# Altium footprint library SMD-POL-PANASONIC-C.PcbLib: 1 footprints
Each footprint in its own frame and in the unit in brackets; x right, y up, seen from the top. Pads: shape width x height; smd on the part's side, far side on the other; paste and mask are expansions set on the pad; w line width, h text height; cw(c..) or ccw(c..) is an arc to the next point about the centre after c.
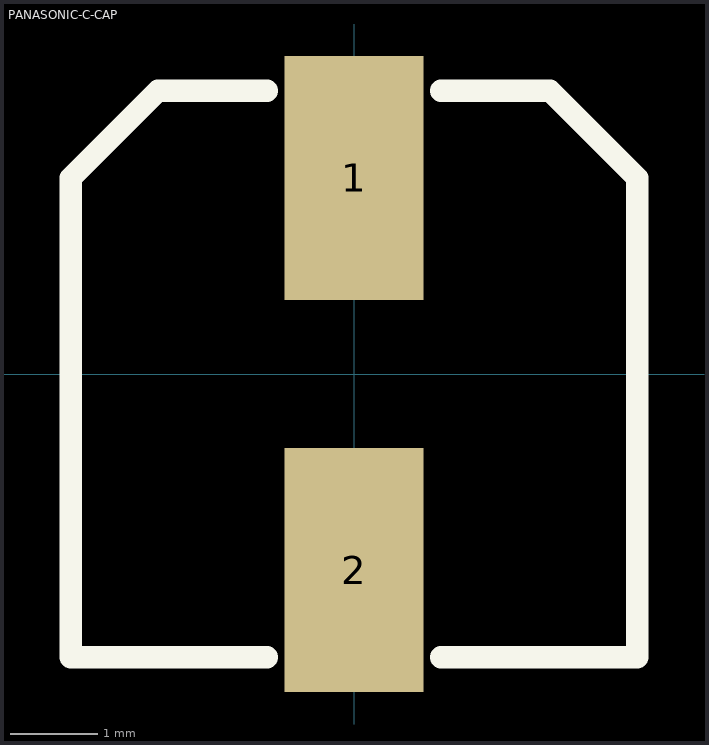
[diagram p0: the footprint, top view; thin cyan lines are the x and y axes]

## PANASONIC-C-CAP [mm]
pads (2):
  rect 1.6x2.8 smd: 1(0,2.25) 2(0,-2.25)
Top Overlay:
  lines w0.254: -1,-3.25 -3.25,-3.25 -3.25,2.25 -2.25,3.25 -1,3.25 ; 1,-3.25 3.25,-3.25 3.25,2.25 2.25,3.25 1,3.25